# Altium integrated library Inductors.IntLib: 1 symbol
Pins are listed as number, name and electrical type; pins without a type are passive.

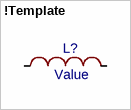
[diagram p0: symbol !Template]

## !Template
designator L?, comment Value
pins: 1, 2